# Altium footprint library General Library.PcbLib: 25 footprints (part 1 of 2)
Each footprint in its own frame and in the unit in brackets; x right, y up, seen from the top. Pads: shape width x height; smd on the part's side, far side on the other; paste and mask are expansions set on the pad; w line width, h text height; cw(c..) or ccw(c..) is an arc to the next point about the centre after c.
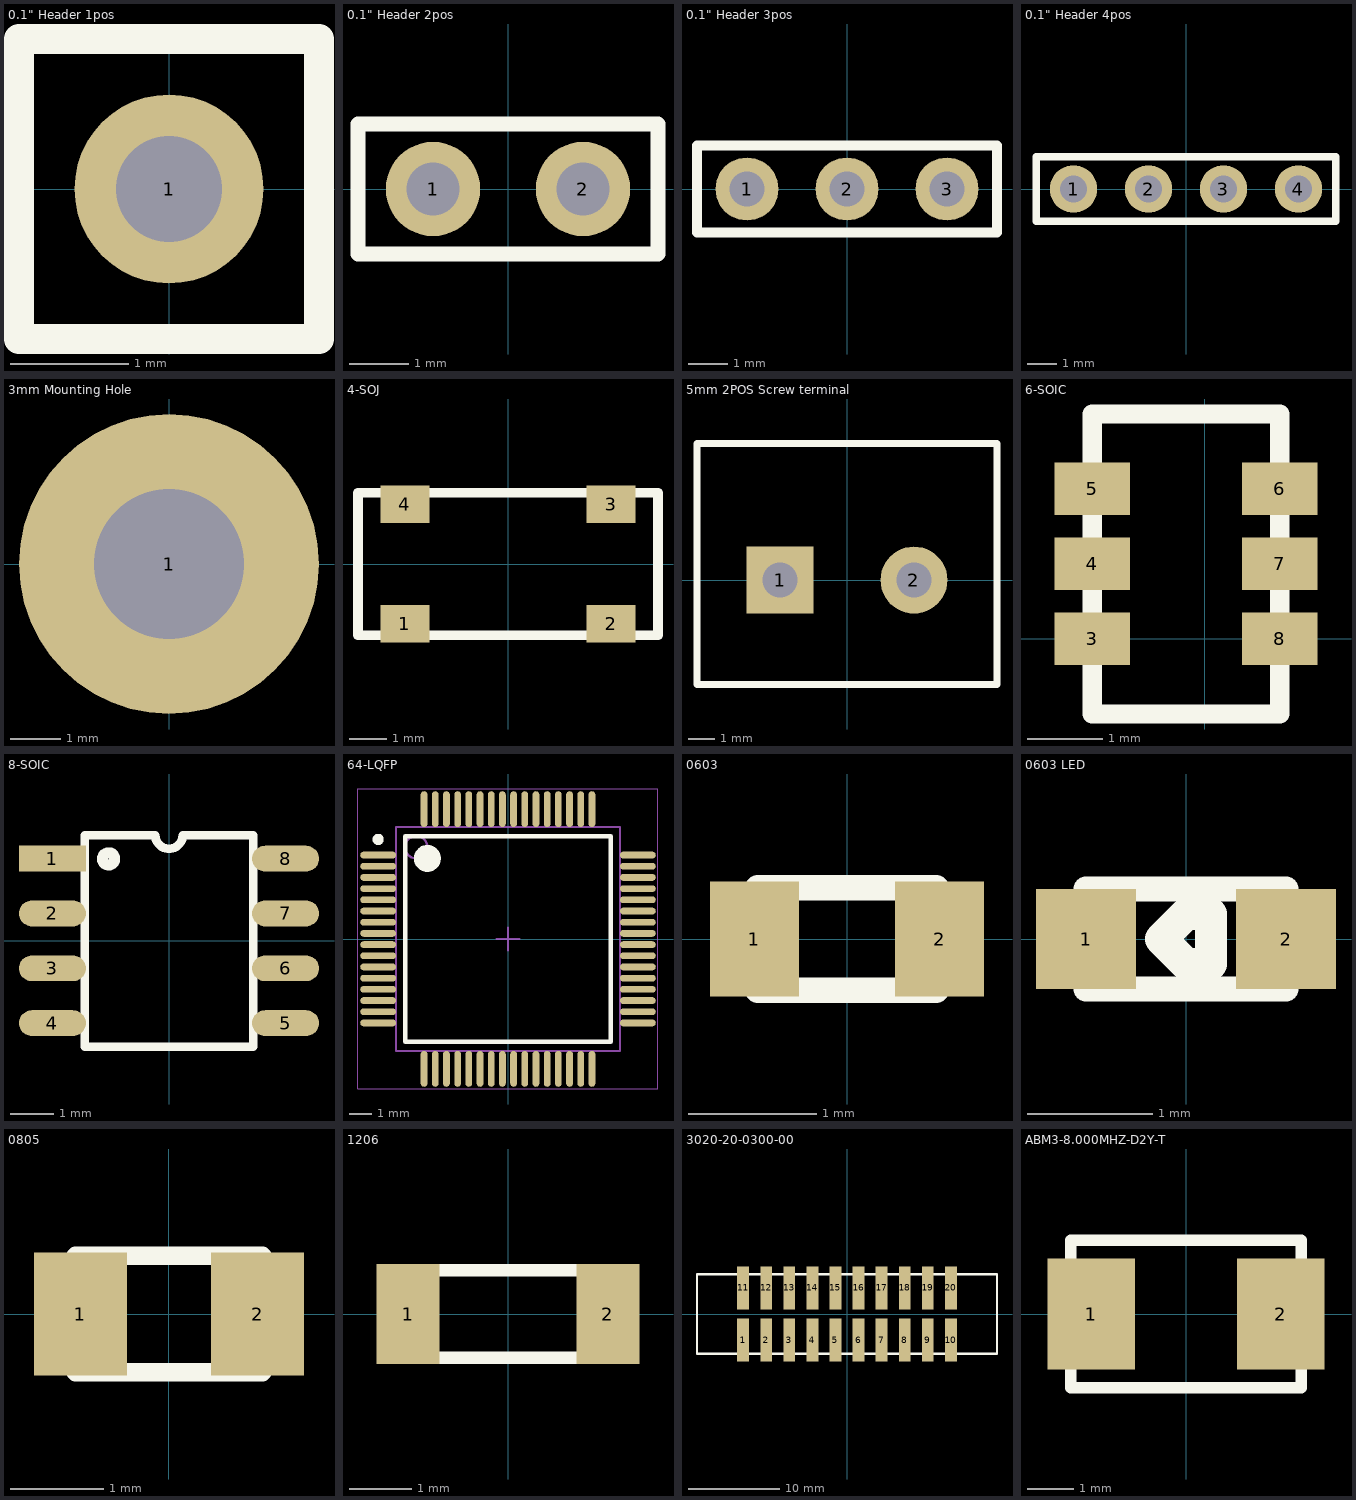
[diagram p0: the footprints below, top view; thin cyan lines are the x and y axes]

## 0.1" Header 1pos [mm]
pads (1):
  round 1.6 hole 0.9: 1(0,0)
Top Overlay:
  lines w0.254: -1.27,-1.27 -1.27,1.27 1.27,1.27 1.27,-1.27 -1.27,-1.27

## 0.1" Header 2pos [mm]
pads (2):
  round 1.6 hole 0.9: 1(-1.27,0) 2(1.27,0)
Top Overlay:
  lines w0.254: -2.54,-1.1 2.54,-1.1 2.54,1.1 -2.54,1.1 -2.54,-1.1

## 0.1" Header 3pos [mm]
pads (3):
  round 1.6 hole 0.9: 1(-2.54,0) 2(0,0) 3(2.54,0)
Top Overlay:
  lines w0.254: -3.81,-1.1 -3.81,1.1 3.81,1.1 3.81,-1.1 -3.81,-1.1

## 0.1" Header 4pos [mm]
pads (4):
  round 1.6 hole 0.9: 1(-3.81,0) 2(-1.27,0) 3(1.27,0) 4(3.81,0)
Top Overlay:
  lines w0.254: -5.08,-1.1 5.08,-1.1 5.08,1.1 -5.08,1.1 -5.08,-1.1

## 3mm Mounting Hole [mm]
pads (1):
  round 6 hole 3: 1(0,0)

## 4-SOJ [mm]
pads (4):
  rect 1.3x1 smd: 1(-2.75,-1.6) 2(2.75,-1.6) 3(2.75,1.6) 4(-2.75,1.6)
Top Overlay:
  lines w0.254: -4,-1.9 4,-1.9 4,1.9 -4,1.9 -4,-1.9

## 5mm 2POS Screw terminal [mm]
pads (2):
  rect 2.5x2.5 hole 1.3: 1(-2.5,0)
  round 2.5 hole 1.3: 2(2.5,0)
Top Overlay:
  lines w0.254: -5.6,-3.9 -5.6,5.1 5.6,5.1 5.6,-3.9 -5.6,-3.9
3D body "ScrewTerminal.STEP": height 10.01, standoff -4.49, extent -5.044,-3.1 5.244,4.5

## 6-SOIC [mm]
pads (6):
  rect 1x0.7 smd: 3(-1.5,0) 4(-1.5,1) 5(-1.5,2) 6(1,2) 7(1,1) 8(1,0)
Top Overlay:
  lines w0.254: -1.5,-1 1,-1 1,3 -1.5,3 -1.5,-1

## 8-SOIC [mm]
pads (8):
  rect 1.55x0.6 smd: 1(-2.7,1.905)
  oval 1.55x0.6 smd: 2(-2.7,0.635) 3(-2.7,-0.635) 4(-2.7,-1.905) 5(2.7,-1.905) 6(2.7,-0.635) 7(2.7,0.635) 8(2.7,1.905)
Top Overlay:
  circle w0.254: c-1.4,1.9 r0.141
  lines w0.2: -1.95,-2.45 1.95,-2.45 1.95,2.45 0.318,2.45 cw(c0,2.45) -0.318,2.45 -1.95,2.45 -1.95,-2.45

## 64-LQFP [mm]
pads (64):
  oval 1.6x0.3 smd: 1(-5.8,3.75) 2(-5.8,3.25) 3(-5.8,2.75) 4(-5.8,2.25) 5(-5.8,1.75) 6(-5.8,1.25) 7(-5.8,0.75) 8(-5.8,0.25) 9(-5.8,-0.25) 10(-5.8,-0.75) 11(-5.8,-1.25) 12(-5.8,-1.75) 13(-5.8,-2.25) 14(-5.8,-2.75) 15(-5.8,-3.25) 16(-5.8,-3.75) 33(5.8,-3.75) 34(5.8,-3.25) 35(5.8,-2.75) 36(5.8,-2.25) 37(5.8,-1.75) 38(5.8,-1.25) 39(5.8,-0.75) 40(5.8,-0.25) 41(5.8,0.25) 42(5.8,0.75) 43(5.8,1.25) 44(5.8,1.75) 45(5.8,2.25) 46(5.8,2.75) 47(5.8,3.25) 48(5.8,3.75)
  oval 0.3x1.6 smd: 17(-3.75,-5.8) 18(-3.25,-5.8) 19(-2.75,-5.8) 20(-2.25,-5.8) 21(-1.75,-5.8) 22(-1.25,-5.8) 23(-0.75,-5.8) 24(-0.25,-5.8) 25(0.25,-5.8) 26(0.75,-5.8) 27(1.25,-5.8) 28(1.75,-5.8) 29(2.25,-5.8) 30(2.75,-5.8) 31(3.25,-5.8) 32(3.75,-5.8) 49(3.75,5.8) 50(3.25,5.8) 51(2.75,5.8) 52(2.25,5.8) 53(1.75,5.8) 54(1.25,5.8) 55(0.75,5.8) 56(0.25,5.8) 57(-0.25,5.8) 58(-0.75,5.8) 59(-1.25,5.8) 60(-1.75,5.8) 61(-2.25,5.8) 62(-2.75,5.8) 63(-3.25,5.8) 64(-3.75,5.8)
Top Overlay:
  circle w0.6: c-3.6,3.6 r0.3
  circle w0.25: c-5.8,4.45 r0.125
  lines w0.2: -4.6,-4.6 4.6,-4.6 4.6,4.6 -4.6,4.6 -4.6,-4.6
Mechanical 13:
  circle w0.1: c-4.1,4.1 r0.5
  lines w0.1: -5,-5 5,-5 5,5 -5,5 -5,-5
Mechanical 15:
  lines w0.05: -6.7,-6.7 6.7,-6.7 6.7,6.7 -6.7,6.7 -6.7,-6.7
  lines w0.1: -0.5,0 0.5,0 ; 0,-0.5 0,0.5
3D body: height 1.6, standoff 0.05, extent -5,-5 5,5

## 0603 [mm]
pads (2):
  rect 0.7x0.9 smd: 1(-0.725,0) 2(0.725,0)
Top Overlay:
  lines w0.2: -0.7,-0.4 -0.7,0.4 0.7,0.4 0.7,-0.4 -0.7,-0.4

## 0603 LED [mm]
pads (2):
  rect 0.8x0.8 smd: 1(-0.8,0) 2(0.8,0)
Top Overlay:
  lines w0.2: -0.8,-0.4 -0.8,0.4 0.8,0.4 0.8,-0.4 -0.8,-0.4
  lines w0.254: -0.2,0 0,0.2 0.2,0.2 0.2,-0.2 0,-0.2 -0.2,0
3D body "150060AS75000_STP_150060xS75000_rev1.stp": height 0.7, standoff 0, extent -0.8,-0.4 0.8,0.4

## 0805 [mm]
pads (2):
  rect 1x1.32 smd: 1(-0.95,0) 2(0.95,0)
Top Overlay:
  lines w0.2: -1,-0.625 1,-0.625 1,0.625 -1,0.625 -1,-0.625

## 1206 [mm]
pads (2):
  rect 1x1.6 smd: 1(-1.6,0) 2(1.6,0)
Top Overlay:
  lines w0.2: -1.6,-0.7 -1.6,0.7 1.6,0.7 1.6,-0.7 -1.6,-0.7

## 3020-20-0300-00 [mm]
pads (20):
  rect 1.3x4.75 smd: 1(-11.43,-2.875) 2(-8.89,-2.875) 3(-6.35,-2.875) 4(-3.81,-2.875) 5(-1.27,-2.875) 6(1.27,-2.875) 7(3.81,-2.875) 8(6.35,-2.875) 9(8.89,-2.875) 10(11.43,-2.875) 11(-11.43,2.875) 12(-8.89,2.875) 13(-6.35,2.875) 14(-3.81,2.875) 15(-1.27,2.875) 16(1.27,2.875) 17(3.81,2.875) 18(6.35,2.875) 19(8.89,2.875) 20(11.43,2.875)
Top Overlay:
  lines w0.254: -16.51,-4.375 -16.51,4.375 16.51,4.375 16.51,-4.375 -16.51,-4.375

## ABM3-8.000MHZ-D2Y-T [mm] "8MHz ±20ppm Crystal 18pF 140 Ohms 2-SMD, No Lead"
pads (2):
  rect 1.9x2.4 smd: 1(-2.05,0) 2(2.05,0)
Top Overlay:
  lines w0.254: -2.5,-1.6 -2.5,1.6 2.5,1.6 2.5,-1.6 -2.5,-1.6
3D body "ABM3.STEP": height 1.32, standoff 0.01, extent -2.5,-1.6 2.5,1.6